# Altium footprint library Arduino Pro Mini.PcbLib: 1 footprints
Each footprint in its own frame and in the unit in brackets; x right, y up, seen from the top. Pads: shape width x height; smd on the part's side, far side on the other; paste and mask are expansions set on the pad; w line width, h text height; cw(c..) or ccw(c..) is an arc to the next point about the centre after c.
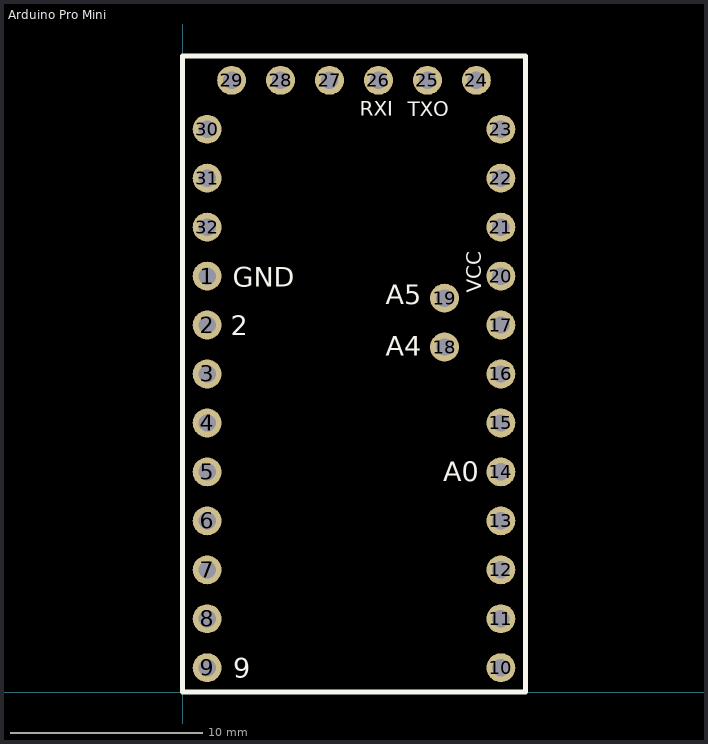
[diagram p0: the footprint, top view; thin cyan lines are the x and y axes]

## Arduino Pro Mini [mm] "Arduino Pro Mini"
height 2
pads (32):
  round 1.5 hole 0.9: 1(1.27,21.59) 2(1.27,19.05) 3(1.27,16.51) 4(1.27,13.97) 5(1.27,11.43) 6(1.27,8.89) 7(1.27,6.35) 8(1.27,3.81) 9(1.27,1.27) 10(16.51,1.27) 11(16.51,3.81) 12(16.51,6.35) 13(16.51,8.89) 14(16.51,11.43) 15(16.51,13.97) 16(16.51,16.51) 17(16.51,19.05) 18(13.589,17.907) 19(13.589,20.447) 20(16.51,21.59) 21(16.51,24.13) 22(16.51,26.67) 23(16.51,29.21) 24(15.24,31.75) 25(12.7,31.75) 26(10.16,31.75) 27(7.62,31.75) 28(5.08,31.75) 29(2.54,31.75) 30(1.27,29.21) 31(1.27,26.67) 32(1.27,24.13)
Top Overlay:
  lines w0.254: 0,0 0,33.02 17.78,33.02 17.78,0 0,0
  text "A0" at 13.513,10.947 h1.02
  text "9" at 2.616,0.737 h1.02
  text "2" at 2.489,18.517 h1.02
  text "GND" at 2.591,21.031 h1.02
  text "A4" at 10.541,17.45 h1.02
  text "A5" at 10.541,20.117 h1.02
  text "VCC" at 15.494,20.726 h0.76
  text "TXO" at 11.684,29.896 h0.76
  text "RXI" at 9.195,29.921 h0.76